# EAGLE library part DF11-16DP-2DSA (library Hirose)
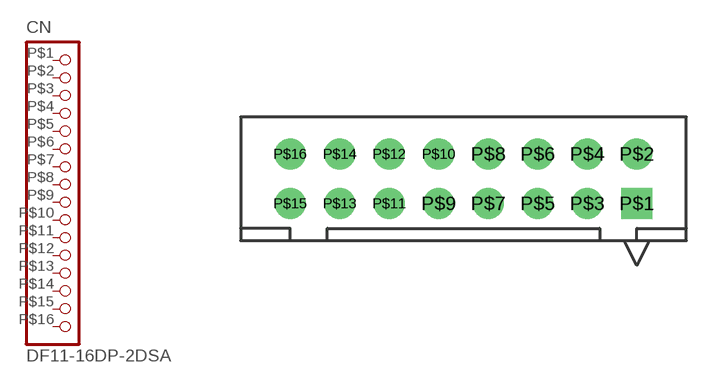
[diagram p0: symbol with the pads of DF11-16DP-2D; footprint DF11-16DP-2D]

Designator prefix CN

## DF11-16DP-2DSA  [DF11-16DP-2D]
P$1  1  pas
P$2  2  pas
P$3  3  pas
P$4  4  pas
P$5  5  pas
P$6  6  pas
P$7  7  pas
P$8  8  pas
P$9  9  pas
P$10  10  pas
P$11  11  pas
P$12  12  pas
P$13  13  pas
P$14  14  pas
P$15  15  pas
P$16  16  pas

## Footprint DF11-16DP-2D (pad centres in mm)
drill 0.75 square: P$1 0,0
drill 0.75: P$2 0,2; P$3 -2,0; P$4 -2,2; P$5 -4,0; P$6 -4,2; P$7 -6,0; P$8 -6,2; P$9 -8,0; P$10 -8,2; P$11 -10,0; P$12 -10,2; P$13 -12,0; P$14 -12,2; P$15 -14,0; P$16 -14,2